# EAGLE library part DIGILENT-FX2 (library dan-digilent)
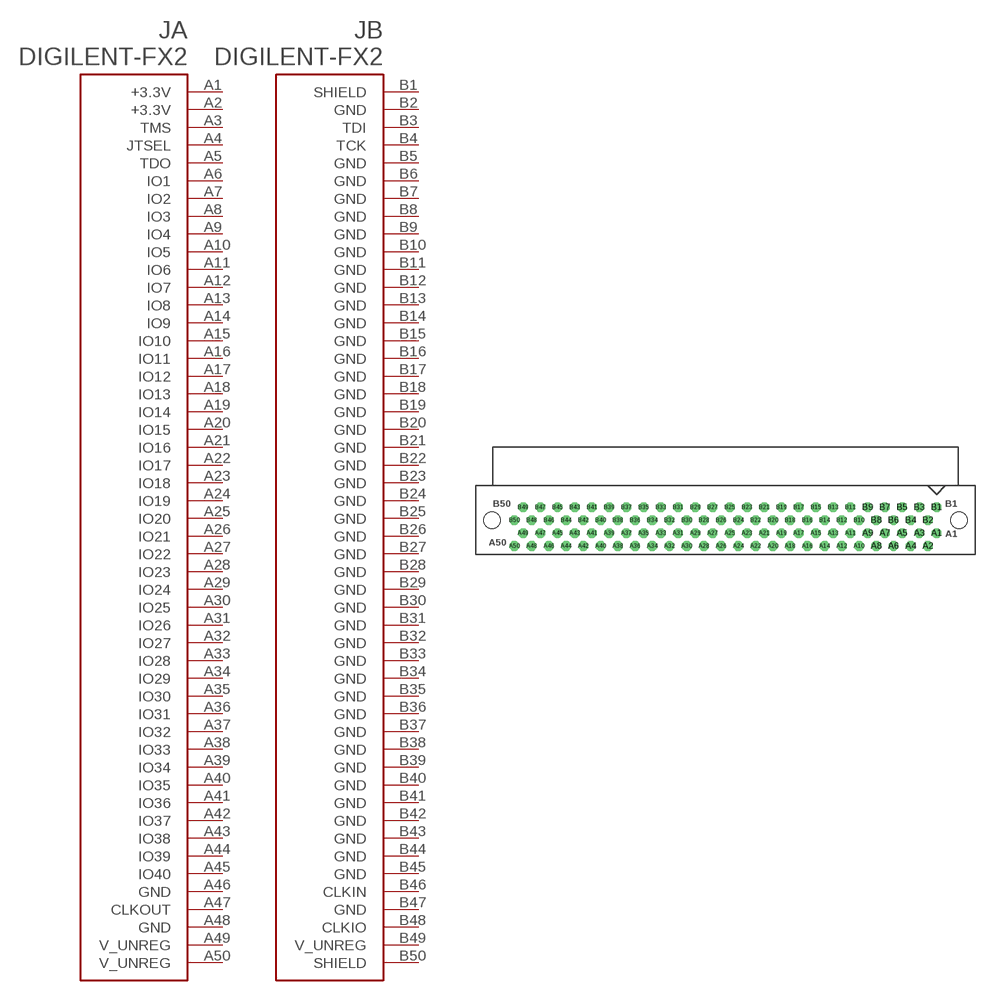
[diagram p0: symbol with the pads of FX2-100S-1.27DS; footprint FX2-100S-1.27DS]

Designator prefix J; gates A=DIGILENT-FX2-A B=DIGILENT-FX2-B

## DIGILENT-FX2  [FX2-100S-1.27DS]
A1  A:+3.3V
A2  A:+3.3V
A3  A:TMS  out
A4  A:JTSEL  in
A5  A:TDO  in
A6  A:IO1
A7  A:IO2
A8  A:IO3
A9  A:IO4
A10  A:IO5
A11  A:IO6
A12  A:IO7
A13  A:IO8
A14  A:IO9
A15  A:IO10
A16  A:IO11
A17  A:IO12
A18  A:IO13
A19  A:IO14
A20  A:IO15
A21  A:IO16
A22  A:IO17
A23  A:IO18
A24  A:IO19
A25  A:IO20
A26  A:IO21
A27  A:IO22
A28  A:IO23
A29  A:IO24
A30  A:IO25
A31  A:IO26
A32  A:IO27
A33  A:IO28
A34  A:IO29
A35  A:IO30
A36  A:IO31
A37  A:IO32
A38  A:IO33
A39  A:IO34
A40  A:IO35
A41  A:IO36
A42  A:IO37
A43  A:IO38
A44  A:IO39
A45  A:IO40
A46  A:GND
A47  A:CLKOUT
A48  A:GND
A49  A:V_UNREG
A50  A:V_UNREG
B1  B:SHIELD
B2  B:GND
B3  B:TDI  out
B4  B:TCK  out
B5  B:GND
B6  B:GND
B7  B:GND
B8  B:GND
B9  B:GND
B10  B:GND
B11  B:GND
B12  B:GND
B13  B:GND
B14  B:GND
B15  B:GND
B16  B:GND
B17  B:GND
B18  B:GND
B19  B:GND
B20  B:GND
B21  B:GND
B22  B:GND
B23  B:GND
B24  B:GND
B25  B:GND
B26  B:GND
B27  B:GND
B28  B:GND
B29  B:GND
B30  B:GND
B31  B:GND
B32  B:GND
B33  B:GND
B34  B:GND
B35  B:GND
B36  B:GND
B37  B:GND
B38  B:GND
B39  B:GND
B40  B:GND
B41  B:GND
B42  B:GND
B43  B:GND
B44  B:GND
B45  B:GND
B46  B:CLKIN
B47  B:GND
B48  B:CLKIO
B49  B:V_UNREG
B50  B:SHIELD

## Footprint FX2-100S-1.27DS (pad centres in mm)
Hirose FX2-100S-1.27DS(71)
drill 0.9 octagon: A1 31.115,-1.905; A2 29.845,-3.81; A3 28.575,-1.905; A4 27.305,-3.81; A5 26.035,-1.905; A6 24.765,-3.81; A7 23.495,-1.905; A8 22.225,-3.81; A9 20.955,-1.905; A10 19.685,-3.81; A11 18.415,-1.905; A12 17.145,-3.81; A13 15.875,-1.905; A14 14.605,-3.81; A15 13.335,-1.905; A16 12.065,-3.81; A17 10.795,-1.905; A18 9.525,-3.81; A19 8.255,-1.905; A20 6.985,-3.81; A21 5.715,-1.905; A22 4.445,-3.81; A23 3.175,-1.905; A24 1.905,-3.81; A25 0.635,-1.905; A26 -0.635,-3.81; A27 -1.905,-1.905; A28 -3.175,-3.81; A29 -4.445,-1.905; A30 -5.715,-3.81; A31 -6.985,-1.905; A32 -8.255,-3.81; A33 -9.525,-1.905; A34 -10.795,-3.81; A35 -12.065,-1.905; A36 -13.335,-3.81; A37 -14.605,-1.905; A38 -15.875,-3.81; A39 -17.145,-1.905; A40 -18.415,-3.81; A41 -19.685,-1.905; A42 -20.955,-3.81; A43 -22.225,-1.905; A44 -23.495,-3.81; A45 -24.765,-1.905; A46 -26.035,-3.81; A47 -27.305,-1.905; A48 -28.575,-3.81; A49 -29.845,-1.905; A50 -31.115,-3.81; B1 31.115,1.905; B2 29.845,0; B3 28.575,1.905; B4 27.305,0; B5 26.035,1.905; B6 24.765,0; B7 23.495,1.905; B8 22.225,0; B9 20.955,1.905; B10 19.685,0; B11 18.415,1.905; B12 17.145,0; B13 15.875,1.905; B14 14.605,0; B15 13.335,1.905; B16 12.065,0; B17 10.795,1.905; B18 9.525,0; B19 8.255,1.905; B20 6.985,0; B21 5.715,1.905; B22 4.445,0; B23 3.175,1.905; B24 1.905,0; B25 0.635,1.905; B26 -0.635,0; B27 -1.905,1.905; B28 -3.175,0; B29 -4.445,1.905; B30 -5.715,0; B31 -6.985,1.905; B32 -8.255,0; B33 -9.525,1.905; B34 -10.795,0; B35 -12.065,1.905; B36 -13.335,0; B37 -14.605,1.905; B38 -15.875,0; B39 -17.145,1.905; B40 -18.415,0; B41 -19.685,1.905; B42 -20.955,0; B43 -22.225,1.905; B44 -23.495,0; B45 -24.765,1.905; B46 -26.035,0; B47 -27.305,1.905; B48 -28.575,0; B49 -29.845,1.905; B50 -31.115,0
hole 2.4 at 34.425,0
hole 2.4 at -34.425,0